# EAGLE library part LM2578* (library my_relai)
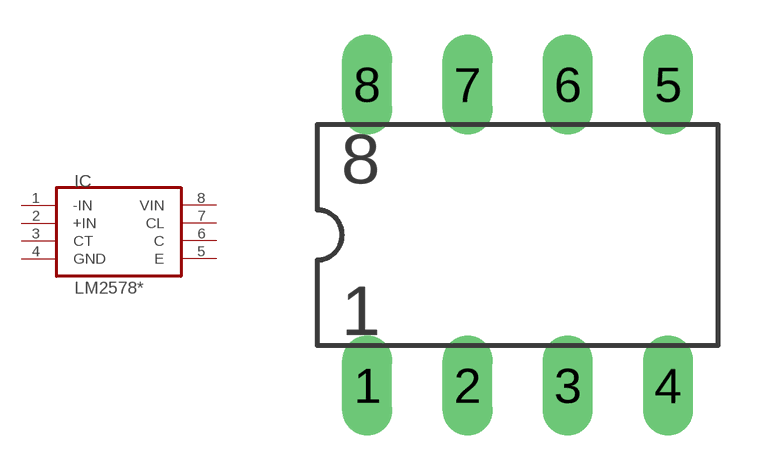
[diagram p5: symbol with the pads of DIL08-2; footprint DIL08-2]

Designator prefix IC

## LM2578N  [DIL08-2]
1  -IN  in
2  +IN  in
3  CT  pas
4  GND  pwr
5  E  out
6  C  pas
7  CL  in
8  VIN  pwr

## Footprint DIL08-2 (pad centres in mm)
DIL08-2
drill 0.305 pad 1.27 long: 1 -3.81,-3.81; 2 -1.27,-3.81; 3 1.27,-3.81; 4 3.81,-3.81; 5 3.81,3.81; 6 1.27,3.81; 7 -1.27,3.81; 8 -3.81,3.81